# EAGLE library part GY-521 (library 111_gy-521)
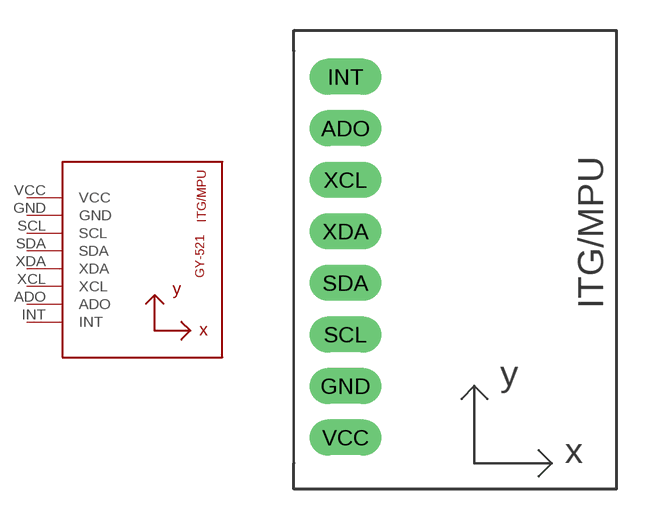
[diagram p0: symbol with the pads of GY-521; footprint GY-521]

Designator prefix U

## GY-521MPU6050  [GY-521]
ADO  ADO
GND  GND
INT  INT
SCL  SCL
SDA  SDA
VCC  VCC
XCL  XCL
XDA  XDA

## Footprint GY-521 (pad centres in mm)
drill 0.8 pad 1.778 long: ADO -2.54,6.35; GND -2.54,-6.35; INT -2.54,8.89; SCL -2.54,-3.81; SDA -2.54,-1.27; VCC -2.54,-8.89; XCL -2.54,3.81; XDA -2.54,1.27